# EAGLE library part W25Q80BVAIG (library Custom)
1 MBytes DIP SPI Flash W25Q80BVAIG - 1 Mbytes (80Mbits) Serial Flash (104MHz SPI Bus), Supply: 2.7-3.6V Digikey: DIP - W25Q80BVAIG
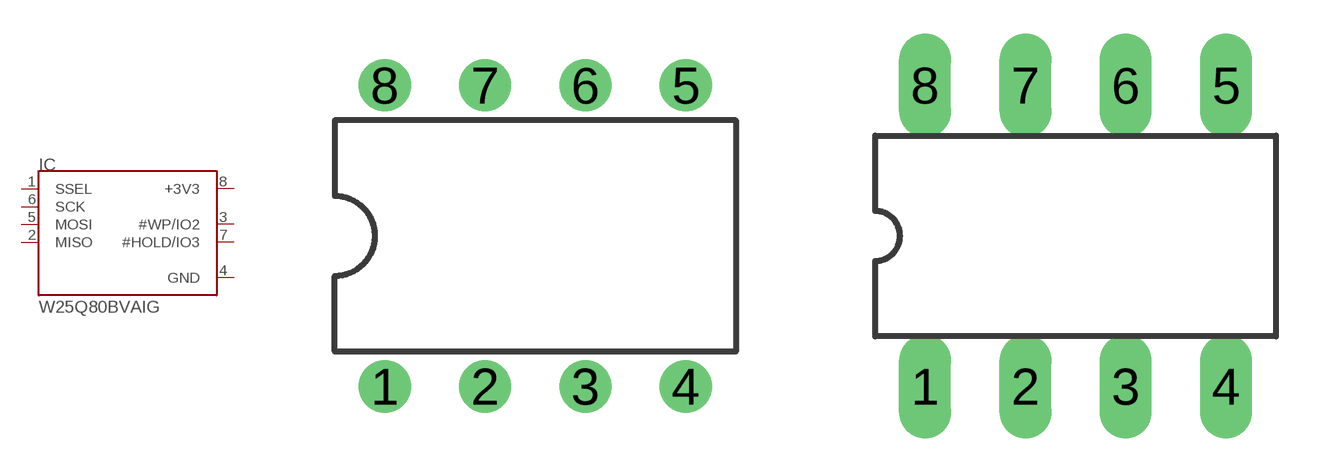
[diagram p2: symbol with the pads of DIL08; footprints DIL08, DIL8]

Designator prefix IC

## W25Q80BVAIGS  [DIL08]
1  SSEL  in
2  MISO  out
3  #WP/IO2
4  GND  pwr
5  MOSI
6  SCK  in
7  #HOLD/IO3
8  +3V3  pwr

## W25Q80BVAIG  [DIL8]
Pads as for DIL08

## Footprint DIL08 (pad centres in mm)
Dual In Line Package
drill 0.813 pad 1.27: 1 -3.81,-3.81; 2 -1.27,-3.81; 3 1.27,-3.81; 4 3.81,-3.81; 5 3.81,3.81; 6 1.27,3.81; 7 -1.27,3.81; 8 -3.81,3.81

## Footprint DIL8 (pad centres in mm)
Dual In Line package type P
drill 0.813 long: 1 -3.81,-3.81; 2 -1.27,-3.81; 3 1.27,-3.81; 4 3.81,-3.81; 5 3.81,3.81; 6 1.27,3.81; 7 -1.27,3.81; 8 -3.81,3.81